# EAGLE library part LM6132A (library SPCoast)
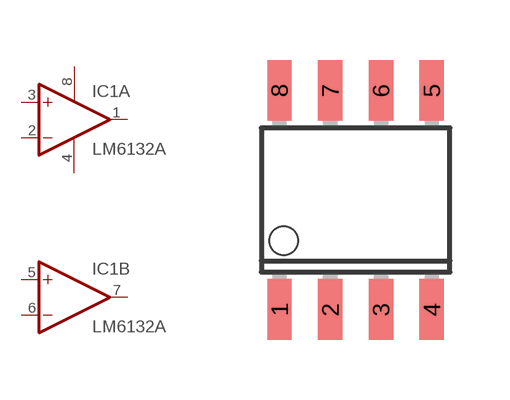
[diagram p88: symbol with the pads of SO-8; footprint SO-8]

Designator prefix IC1; gates A=OPAMP-1 B=OPAMP-1 P=PWR+--1

## LM6132A  [SO-8]
1  A:OUT  out
2  A:-IN  in
3  A:+IN  in
4  P:V-  pwr
5  B:+IN  in
6  B:-IN  in
7  B:OUT  out
8  P:V+  pwr

## Footprint SO-8 (pad centres in mm)
SO 8 small outline
smd 0.61 x 1.524: 1 -1.905,-2.743; 2 -0.635,-2.743; 3 0.635,-2.743; 4 1.905,-2.743; 5 1.905,2.743; 6 0.635,2.743; 7 -0.635,2.743; 8 -1.905,2.743